# Altium schematic symbol library kmilo17pet-NSC_LDO.SchLib: 2675 symbols (part 14 of 65)
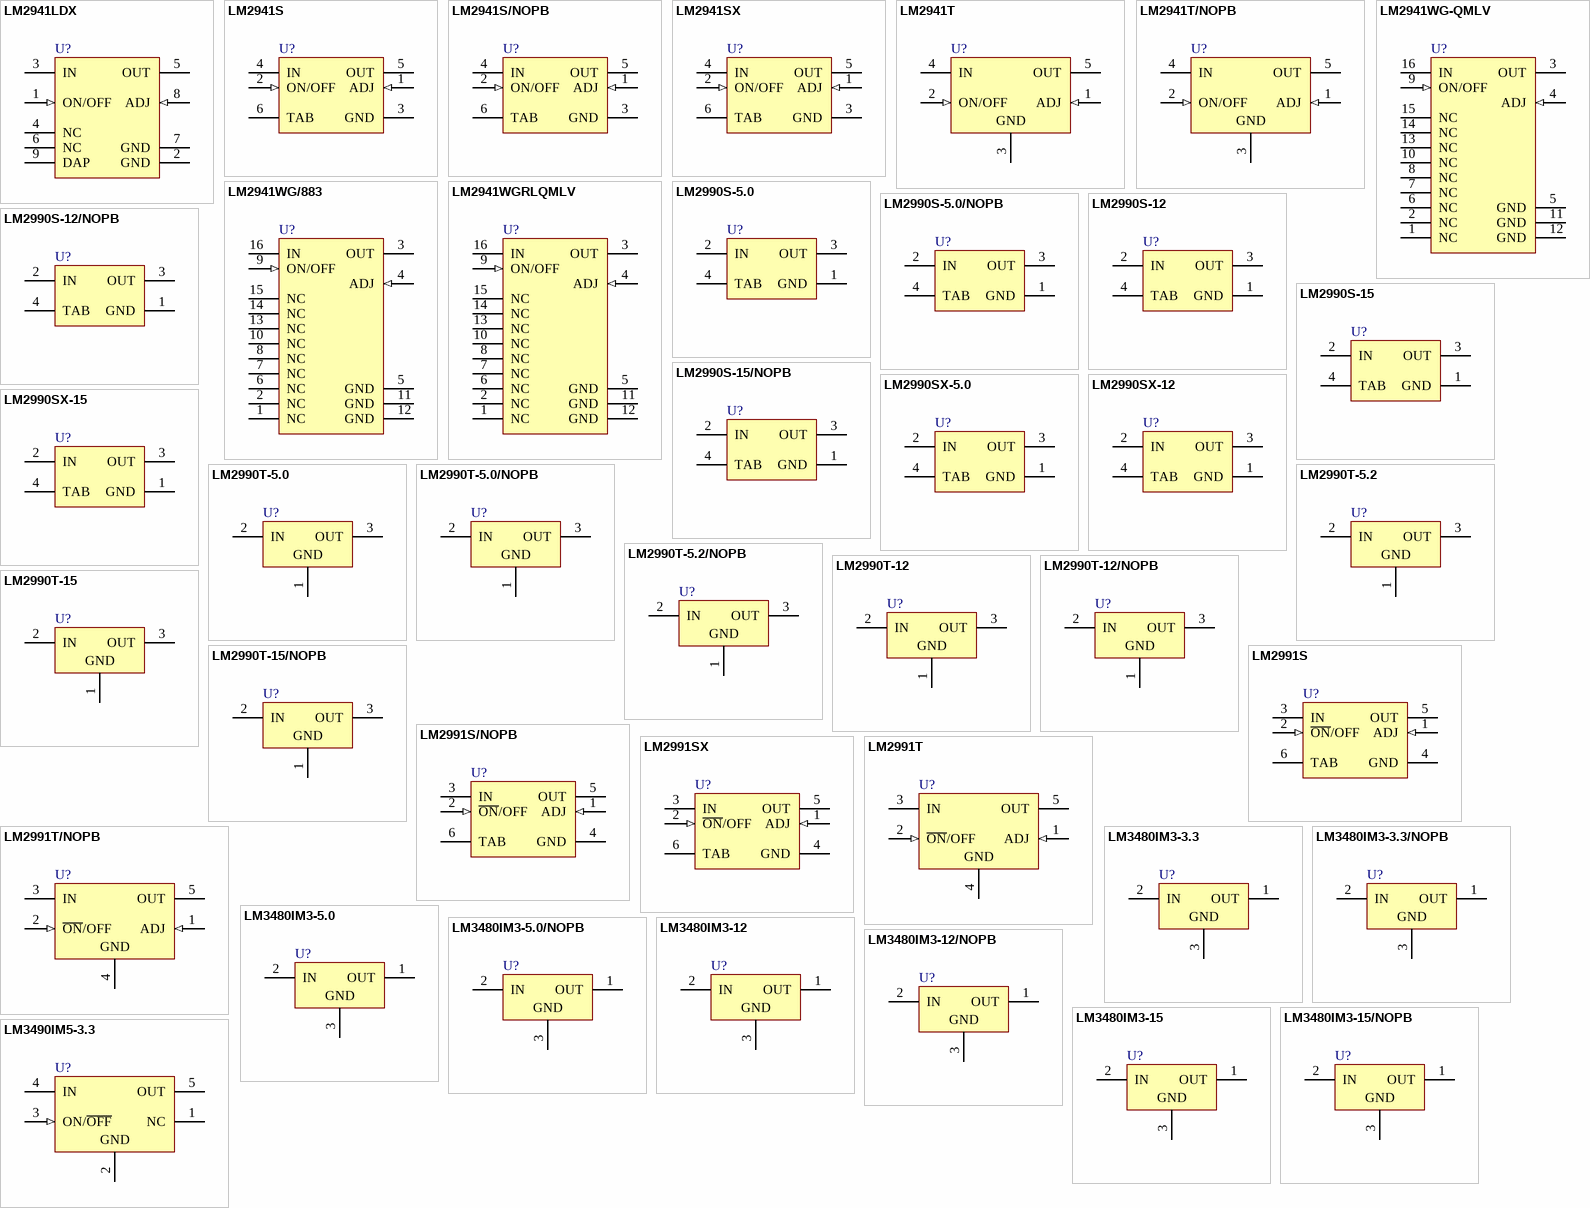
[diagram p80: symbols LM2941LDX to LM3490IM5-3.3]

## LM2990S-5.0/NOPB
designator U?
Negative Low Dropout Regulator, 3-pin TO-263, Pb-Free; PartNumber: LM2990S-5.0/NOPB; Manufacturer: National Semiconductor; PackageTopMarking: NSUZXYTTE#*LM2990S*-5.0 P+; PowerWise: N; CompType: LDO IC; High-Reliability: Y; DatasheetVersion: Jun-2005; PackageVersion: revF, Apr-2005; PackageReference: TS3B; PackageDescription: TO-263, Molded, .400 x .390 x .180in, 3 Lead, .1in Pitch, Surface Mount; RoHS: Y; PinCount: 3; Code_JEDEC: MO-169-AA; ComponentLink1Description: Manufacturer URL; ComponentLink1URL: http://www.national.com/; ComponentLink2Description: LM2990 Datasheet; ComponentLink2URL: http://www.national.com/ds/LM/LM2990.pdf; ComponentLink3Description: LM2990 Web Page; ComponentLink3URL: http://www.national.com/pf/LM/LM2990.html; ComponentLink4Description: TS3B Package Page; ComponentLink4URL: http://www.national.com/packaging/folders/ts3b.html
footprint TS3B_N (D2-PAK, 4-Leads, Body 8.6x10.2mm, Pitch 2.54mm, Lead Span 14.2mm, IPC Medium Density)
footprint TS3B_L (D2-PAK, 4-Leads, Body 8.6x10.2mm, Pitch 2.54mm, Lead Span 14.2mm, IPC High Density)
footprint TS3B_M (D2-PAK, 4-Leads, Body 8.6x10.2mm, Pitch 2.54mm, Lead Span 14.2mm, IPC Low Density)
pins: 1 GND (power), 2 IN (power), 3 OUT (power), 4 TAB (power)

## LM2990S-12
designator U?
Negative Low Dropout Regulator, 3-pin TO-263; PartNumber: LM2990S-12; Manufacturer: National Semiconductor; PackageTopMarking: NSUZXYTTE#*LM2990S*-12 P+; PowerWise: N; CompType: LDO IC; High-Reliability: Y; DatasheetVersion: Jun-2005; PackageVersion: revF, Apr-2005; PackageReference: TS3B; PackageDescription: TO-263, Molded, .400 x .390 x .180in, 3 Lead, .1in Pitch, Surface Mount; RoHS: N; PinCount: 3; Code_JEDEC: MO-169-AA; ComponentLink1Description: Manufacturer URL; ComponentLink1URL: http://www.national.com/; ComponentLink2Description: LM2990 Datasheet; ComponentLink2URL: http://www.national.com/ds/LM/LM2990.pdf; ComponentLink3Description: LM2990 Web Page; ComponentLink3URL: http://www.national.com/pf/LM/LM2990.html; ComponentLink4Description: TS3B Package Page; ComponentLink4URL: http://www.national.com/packaging/folders/ts3b.html
footprint TS3B_N (D2-PAK, 4-Leads, Body 8.6x10.2mm, Pitch 2.54mm, Lead Span 14.2mm, IPC Medium Density)
footprint TS3B_L (D2-PAK, 4-Leads, Body 8.6x10.2mm, Pitch 2.54mm, Lead Span 14.2mm, IPC High Density)
footprint TS3B_M (D2-PAK, 4-Leads, Body 8.6x10.2mm, Pitch 2.54mm, Lead Span 14.2mm, IPC Low Density)
pins: 1 GND (power), 2 IN (power), 3 OUT (power), 4 TAB (power)

## LM2990S-12/NOPB
designator U?
Negative Low Dropout Regulator, 3-pin TO-263, Pb-Free; PartNumber: LM2990S-12/NOPB; Manufacturer: National Semiconductor; PackageTopMarking: NSUZXYTTE#*LM2990S*-12 P+; PowerWise: N; CompType: LDO IC; High-Reliability: Y; DatasheetVersion: Jun-2005; PackageVersion: revF, Apr-2005; PackageReference: TS3B; PackageDescription: TO-263, Molded, .400 x .390 x .180in, 3 Lead, .1in Pitch, Surface Mount; RoHS: Y; PinCount: 3; Code_JEDEC: MO-169-AA; ComponentLink1Description: Manufacturer URL; ComponentLink1URL: http://www.national.com/; ComponentLink2Description: LM2990 Datasheet; ComponentLink2URL: http://www.national.com/ds/LM/LM2990.pdf; ComponentLink3Description: LM2990 Web Page; ComponentLink3URL: http://www.national.com/pf/LM/LM2990.html; ComponentLink4Description: TS3B Package Page; ComponentLink4URL: http://www.national.com/packaging/folders/ts3b.html
footprint TS3B_N (D2-PAK, 4-Leads, Body 8.6x10.2mm, Pitch 2.54mm, Lead Span 14.2mm, IPC Medium Density)
footprint TS3B_L (D2-PAK, 4-Leads, Body 8.6x10.2mm, Pitch 2.54mm, Lead Span 14.2mm, IPC High Density)
footprint TS3B_M (D2-PAK, 4-Leads, Body 8.6x10.2mm, Pitch 2.54mm, Lead Span 14.2mm, IPC Low Density)
pins: 1 GND (power), 2 IN (power), 3 OUT (power), 4 TAB (power)

## LM2990S-15
designator U?
Negative Low Dropout Regulator, 3-pin TO-263; PartNumber: LM2990S-15; Manufacturer: National Semiconductor; PackageTopMarking: NSUZXYTTE#*LM2990S*-15 P+; PowerWise: N; CompType: LDO IC; High-Reliability: Y; DatasheetVersion: Jun-2005; PackageVersion: revF, Apr-2005; PackageReference: TS3B; PackageDescription: TO-263, Molded, .400 x .390 x .180in, 3 Lead, .1in Pitch, Surface Mount; RoHS: N; PinCount: 3; Code_JEDEC: MO-169-AA; ComponentLink1Description: Manufacturer URL; ComponentLink1URL: http://www.national.com/; ComponentLink2Description: LM2990 Datasheet; ComponentLink2URL: http://www.national.com/ds/LM/LM2990.pdf; ComponentLink3Description: LM2990 Web Page; ComponentLink3URL: http://www.national.com/pf/LM/LM2990.html; ComponentLink4Description: TS3B Package Page; ComponentLink4URL: http://www.national.com/packaging/folders/ts3b.html
footprint TS3B_N (D2-PAK, 4-Leads, Body 8.6x10.2mm, Pitch 2.54mm, Lead Span 14.2mm, IPC Medium Density)
footprint TS3B_L (D2-PAK, 4-Leads, Body 8.6x10.2mm, Pitch 2.54mm, Lead Span 14.2mm, IPC High Density)
footprint TS3B_M (D2-PAK, 4-Leads, Body 8.6x10.2mm, Pitch 2.54mm, Lead Span 14.2mm, IPC Low Density)
pins: 1 GND (power), 2 IN (power), 3 OUT (power), 4 TAB (power)

## LM2990S-15/NOPB
designator U?
Negative Low Dropout Regulator, 3-pin TO-263, Pb-Free; PartNumber: LM2990S-15/NOPB; Manufacturer: National Semiconductor; PackageTopMarking: NSUZXYTTE#*LM2990S*-15 P+; PowerWise: N; CompType: LDO IC; High-Reliability: Y; DatasheetVersion: Jun-2005; PackageVersion: revF, Apr-2005; PackageReference: TS3B; PackageDescription: TO-263, Molded, .400 x .390 x .180in, 3 Lead, .1in Pitch, Surface Mount; RoHS: Y; PinCount: 3; Code_JEDEC: MO-169-AA; ComponentLink1Description: Manufacturer URL; ComponentLink1URL: http://www.national.com/; ComponentLink2Description: LM2990 Datasheet; ComponentLink2URL: http://www.national.com/ds/LM/LM2990.pdf; ComponentLink3Description: LM2990 Web Page; ComponentLink3URL: http://www.national.com/pf/LM/LM2990.html; ComponentLink4Description: TS3B Package Page; ComponentLink4URL: http://www.national.com/packaging/folders/ts3b.html
footprint TS3B_N (D2-PAK, 4-Leads, Body 8.6x10.2mm, Pitch 2.54mm, Lead Span 14.2mm, IPC Medium Density)
footprint TS3B_L (D2-PAK, 4-Leads, Body 8.6x10.2mm, Pitch 2.54mm, Lead Span 14.2mm, IPC High Density)
footprint TS3B_M (D2-PAK, 4-Leads, Body 8.6x10.2mm, Pitch 2.54mm, Lead Span 14.2mm, IPC Low Density)
pins: 1 GND (power), 2 IN (power), 3 OUT (power), 4 TAB (power)

## LM2990SX-5.0
designator U?
Negative Low Dropout Regulator, 3-pin TO-263; PartNumber: LM2990SX-5.0; Manufacturer: National Semiconductor; PackageTopMarking: NSUZXYTTE#*LM2990S*-5.0 P+; PowerWise: N; CompType: LDO IC; High-Reliability: Y; DatasheetVersion: Jun-2005; PackageVersion: revF, Apr-2005; PackageReference: TS3B; PackageDescription: TO-263, Molded, .400 x .390 x .180in, 3 Lead, .1in Pitch, Surface Mount; RoHS: N; PinCount: 3; Code_JEDEC: MO-169-AA; ComponentLink1Description: Manufacturer URL; ComponentLink1URL: http://www.national.com/; ComponentLink2Description: LM2990 Datasheet; ComponentLink2URL: http://www.national.com/ds/LM/LM2990.pdf; ComponentLink3Description: LM2990 Web Page; ComponentLink3URL: http://www.national.com/pf/LM/LM2990.html; ComponentLink4Description: TS3B Package Page; ComponentLink4URL: http://www.national.com/packaging/folders/ts3b.html
footprint TS3B_N (D2-PAK, 4-Leads, Body 8.6x10.2mm, Pitch 2.54mm, Lead Span 14.2mm, IPC Medium Density)
footprint TS3B_L (D2-PAK, 4-Leads, Body 8.6x10.2mm, Pitch 2.54mm, Lead Span 14.2mm, IPC High Density)
footprint TS3B_M (D2-PAK, 4-Leads, Body 8.6x10.2mm, Pitch 2.54mm, Lead Span 14.2mm, IPC Low Density)
pins: 1 GND (power), 2 IN (power), 3 OUT (power), 4 TAB (power)

## LM2990SX-12
designator U?
Negative Low Dropout Regulator, 3-pin TO-263; PartNumber: LM2990SX-12; Manufacturer: National Semiconductor; PackageTopMarking: NSUZXYTTE#*LM2990S*-12 P+; PowerWise: N; CompType: LDO IC; High-Reliability: Y; DatasheetVersion: Jun-2005; PackageVersion: revF, Apr-2005; PackageReference: TS3B; PackageDescription: TO-263, Molded, .400 x .390 x .180in, 3 Lead, .1in Pitch, Surface Mount; RoHS: N; PinCount: 3; Code_JEDEC: MO-169-AA; ComponentLink1Description: Manufacturer URL; ComponentLink1URL: http://www.national.com/; ComponentLink2Description: LM2990 Datasheet; ComponentLink2URL: http://www.national.com/ds/LM/LM2990.pdf; ComponentLink3Description: LM2990 Web Page; ComponentLink3URL: http://www.national.com/pf/LM/LM2990.html; ComponentLink4Description: TS3B Package Page; ComponentLink4URL: http://www.national.com/packaging/folders/ts3b.html
footprint TS3B_N (D2-PAK, 4-Leads, Body 8.6x10.2mm, Pitch 2.54mm, Lead Span 14.2mm, IPC Medium Density)
footprint TS3B_L (D2-PAK, 4-Leads, Body 8.6x10.2mm, Pitch 2.54mm, Lead Span 14.2mm, IPC High Density)
footprint TS3B_M (D2-PAK, 4-Leads, Body 8.6x10.2mm, Pitch 2.54mm, Lead Span 14.2mm, IPC Low Density)
pins: 1 GND (power), 2 IN (power), 3 OUT (power), 4 TAB (power)

## LM2990SX-15
designator U?
Negative Low Dropout Regulator, 3-pin TO-263; PartNumber: LM2990SX-15; Manufacturer: National Semiconductor; PackageTopMarking: NSUZXYTTE#*LM2990S*-15 P+; PowerWise: N; CompType: LDO IC; High-Reliability: Y; DatasheetVersion: Jun-2005; PackageVersion: revF, Apr-2005; PackageReference: TS3B; PackageDescription: TO-263, Molded, .400 x .390 x .180in, 3 Lead, .1in Pitch, Surface Mount; RoHS: N; PinCount: 3; Code_JEDEC: MO-169-AA; ComponentLink1Description: Manufacturer URL; ComponentLink1URL: http://www.national.com/; ComponentLink2Description: LM2990 Datasheet; ComponentLink2URL: http://www.national.com/ds/LM/LM2990.pdf; ComponentLink3Description: LM2990 Web Page; ComponentLink3URL: http://www.national.com/pf/LM/LM2990.html; ComponentLink4Description: TS3B Package Page; ComponentLink4URL: http://www.national.com/packaging/folders/ts3b.html
footprint TS3B_N (D2-PAK, 4-Leads, Body 8.6x10.2mm, Pitch 2.54mm, Lead Span 14.2mm, IPC Medium Density)
footprint TS3B_L (D2-PAK, 4-Leads, Body 8.6x10.2mm, Pitch 2.54mm, Lead Span 14.2mm, IPC High Density)
footprint TS3B_M (D2-PAK, 4-Leads, Body 8.6x10.2mm, Pitch 2.54mm, Lead Span 14.2mm, IPC Low Density)
pins: 1 GND (power), 2 IN (power), 3 OUT (power), 4 TAB (power)

## LM2990T-5.0
designator U?
Negative Low Dropout Regulator, 3-pin TO-220; PartNumber: LM2990T-5.0; Manufacturer: National Semiconductor; PackageTopMarking: NSUZXYTTE#*LM2990T*-5.0 P+; PowerWise: N; CompType: LDO IC; High-Reliability: Y; DatasheetVersion: Jun-2005; PackageVersion: revL, Jan-1992; PackageReference: T03B; PackageDescription: TO-220, Molded, 3 Lead, Straight; RoHS: N; PinCount: 3; ComponentLink1Description: Manufacturer URL; ComponentLink1URL: http://www.national.com/; ComponentLink2Description: LM2990 Datasheet; ComponentLink2URL: http://www.national.com/ds/LM/LM2990.pdf; ComponentLink3Description: LM2990 Web Page; ComponentLink3URL: http://www.national.com/pf/LM/LM2990.html; ComponentLink4Description: T03B Package Page; ComponentLink4URL: http://www.national.com/packaging/folders/t03b.html
footprint T03B (TO, Thru-Hole, Vertical, Heatsink Mounted; 3 In-Line Leads; Pitch 2.54 mm)
pins: 1 GND (power), 2 IN (power), 3 OUT (power)

## LM2990T-5.0/NOPB
designator U?
Negative Low Dropout Regulator, 3-pin TO-220, Pb-Free; PartNumber: LM2990T-5.0/NOPB; Manufacturer: National Semiconductor; PackageTopMarking: NSUZXYTTE#*LM2990T*-5.0 P+; PowerWise: N; CompType: LDO IC; High-Reliability: Y; DatasheetVersion: Jun-2005; PackageVersion: revL, Jan-1992; PackageReference: T03B; PackageDescription: TO-220, Molded, 3 Lead, Straight; RoHS: Y; PinCount: 3; ComponentLink1Description: Manufacturer URL; ComponentLink1URL: http://www.national.com/; ComponentLink2Description: LM2990 Datasheet; ComponentLink2URL: http://www.national.com/ds/LM/LM2990.pdf; ComponentLink3Description: LM2990 Web Page; ComponentLink3URL: http://www.national.com/pf/LM/LM2990.html; ComponentLink4Description: T03B Package Page; ComponentLink4URL: http://www.national.com/packaging/folders/t03b.html
footprint T03B (TO, Thru-Hole, Vertical, Heatsink Mounted; 3 In-Line Leads; Pitch 2.54 mm)
pins: 1 GND (power), 2 IN (power), 3 OUT (power)

## LM2990T-5.2
designator U?
Negative Low Dropout Regulator, 3-pin TO-220; PartNumber: LM2990T-5.2; Manufacturer: National Semiconductor; PackageTopMarking: NSUZXYTTE#*LM2990T*-5.2 P+; PowerWise: N; CompType: LDO IC; High-Reliability: Y; DatasheetVersion: Jun-2005; PackageVersion: revL, Jan-1992; PackageReference: T03B; PackageDescription: TO-220, Molded, 3 Lead, Straight; RoHS: N; PinCount: 3; ComponentLink1Description: Manufacturer URL; ComponentLink1URL: http://www.national.com/; ComponentLink2Description: LM2990 Datasheet; ComponentLink2URL: http://www.national.com/ds/LM/LM2990.pdf; ComponentLink3Description: LM2990 Web Page; ComponentLink3URL: http://www.national.com/pf/LM/LM2990.html; ComponentLink4Description: T03B Package Page; ComponentLink4URL: http://www.national.com/packaging/folders/t03b.html
footprint T03B (TO, Thru-Hole, Vertical, Heatsink Mounted; 3 In-Line Leads; Pitch 2.54 mm)
pins: 1 GND (power), 2 IN (power), 3 OUT (power)

## LM2990T-5.2/NOPB
designator U?
Negative Low Dropout Regulator, 3-pin TO-220, Pb-Free; PartNumber: LM2990T-5.2/NOPB; Manufacturer: National Semiconductor; PackageTopMarking: NSUZXYTTE#*LM2990T*-5.2 P+; PowerWise: N; CompType: LDO IC; High-Reliability: Y; DatasheetVersion: Jun-2005; PackageVersion: revL, Jan-1992; PackageReference: T03B; PackageDescription: TO-220, Molded, 3 Lead, Straight; RoHS: Y; PinCount: 3; ComponentLink1Description: Manufacturer URL; ComponentLink1URL: http://www.national.com/; ComponentLink2Description: LM2990 Datasheet; ComponentLink2URL: http://www.national.com/ds/LM/LM2990.pdf; ComponentLink3Description: LM2990 Web Page; ComponentLink3URL: http://www.national.com/pf/LM/LM2990.html; ComponentLink4Description: T03B Package Page; ComponentLink4URL: http://www.national.com/packaging/folders/t03b.html
footprint T03B (TO, Thru-Hole, Vertical, Heatsink Mounted; 3 In-Line Leads; Pitch 2.54 mm)
pins: 1 GND (power), 2 IN (power), 3 OUT (power)

## LM2990T-12
designator U?
Negative Low Dropout Regulator, 3-pin TO-220; PartNumber: LM2990T-12; Manufacturer: National Semiconductor; PackageTopMarking: NSUZXYTTE#*LM2990T*-12 P+; PowerWise: N; CompType: LDO IC; High-Reliability: Y; DatasheetVersion: Jun-2005; PackageVersion: revL, Jan-1992; PackageReference: T03B; PackageDescription: TO-220, Molded, 3 Lead, Straight; RoHS: N; PinCount: 3; ComponentLink1Description: Manufacturer URL; ComponentLink1URL: http://www.national.com/; ComponentLink2Description: LM2990 Datasheet; ComponentLink2URL: http://www.national.com/ds/LM/LM2990.pdf; ComponentLink3Description: LM2990 Web Page; ComponentLink3URL: http://www.national.com/pf/LM/LM2990.html; ComponentLink4Description: T03B Package Page; ComponentLink4URL: http://www.national.com/packaging/folders/t03b.html
footprint T03B (TO, Thru-Hole, Vertical, Heatsink Mounted; 3 In-Line Leads; Pitch 2.54 mm)
pins: 1 GND (power), 2 IN (power), 3 OUT (power)

## LM2990T-12/NOPB
designator U?
Negative Low Dropout Regulator, 3-pin TO-220, Pb-Free; PartNumber: LM2990T-12/NOPB; Manufacturer: National Semiconductor; PackageTopMarking: NSUZXYTTE#*LM2990T*-12 P+; PowerWise: N; CompType: LDO IC; High-Reliability: Y; DatasheetVersion: Jun-2005; PackageVersion: revL, Jan-1992; PackageReference: T03B; PackageDescription: TO-220, Molded, 3 Lead, Straight; RoHS: Y; PinCount: 3; ComponentLink1Description: Manufacturer URL; ComponentLink1URL: http://www.national.com/; ComponentLink2Description: LM2990 Datasheet; ComponentLink2URL: http://www.national.com/ds/LM/LM2990.pdf; ComponentLink3Description: LM2990 Web Page; ComponentLink3URL: http://www.national.com/pf/LM/LM2990.html; ComponentLink4Description: T03B Package Page; ComponentLink4URL: http://www.national.com/packaging/folders/t03b.html
footprint T03B (TO, Thru-Hole, Vertical, Heatsink Mounted; 3 In-Line Leads; Pitch 2.54 mm)
pins: 1 GND (power), 2 IN (power), 3 OUT (power)

## LM2990T-15
designator U?
Negative Low Dropout Regulator, 3-pin TO-220; PartNumber: LM2990T-15; Manufacturer: National Semiconductor; PackageTopMarking: NSUZXYTTE#*LM2990T*-15 P+; PowerWise: N; CompType: LDO IC; High-Reliability: Y; DatasheetVersion: Jun-2005; PackageVersion: revL, Jan-1992; PackageReference: T03B; PackageDescription: TO-220, Molded, 3 Lead, Straight; RoHS: N; PinCount: 3; ComponentLink1Description: Manufacturer URL; ComponentLink1URL: http://www.national.com/; ComponentLink2Description: LM2990 Datasheet; ComponentLink2URL: http://www.national.com/ds/LM/LM2990.pdf; ComponentLink3Description: LM2990 Web Page; ComponentLink3URL: http://www.national.com/pf/LM/LM2990.html; ComponentLink4Description: T03B Package Page; ComponentLink4URL: http://www.national.com/packaging/folders/t03b.html
footprint T03B (TO, Thru-Hole, Vertical, Heatsink Mounted; 3 In-Line Leads; Pitch 2.54 mm)
pins: 1 GND (power), 2 IN (power), 3 OUT (power)

## LM2990T-15/NOPB
designator U?
Negative Low Dropout Regulator, 3-pin TO-220, Pb-Free; PartNumber: LM2990T-15/NOPB; Manufacturer: National Semiconductor; PackageTopMarking: NSUZXYTTE#*LM2990T*-15 P+; PowerWise: N; CompType: LDO IC; High-Reliability: Y; DatasheetVersion: Jun-2005; PackageVersion: revL, Jan-1992; PackageReference: T03B; PackageDescription: TO-220, Molded, 3 Lead, Straight; RoHS: Y; PinCount: 3; ComponentLink1Description: Manufacturer URL; ComponentLink1URL: http://www.national.com/; ComponentLink2Description: LM2990 Datasheet; ComponentLink2URL: http://www.national.com/ds/LM/LM2990.pdf; ComponentLink3Description: LM2990 Web Page; ComponentLink3URL: http://www.national.com/pf/LM/LM2990.html; ComponentLink4Description: T03B Package Page; ComponentLink4URL: http://www.national.com/packaging/folders/t03b.html
footprint T03B (TO, Thru-Hole, Vertical, Heatsink Mounted; 3 In-Line Leads; Pitch 2.54 mm)
pins: 1 GND (power), 2 IN (power), 3 OUT (power)

## LM2991S
designator U?
Negative Low Dropout Adjustable Regulator, 5-pin TO-263; PartNumber: LM2991S; Manufacturer: National Semiconductor; PackageTopMarking: NSUZXYTTE#*LM2991S*P+; PowerWise: N; CompType: LDO IC; High-Reliability: Y; DatasheetVersion: Sep-2000; PackageVersion: revD, Apr-2005; PackageReference: TS5B; PackageDescription: TO-263, Molded, .400 x .390 x .180in, 5 Lead, .067in Pitch, Surface Mount; RoHS: N; PinCount: 5; Code_JEDEC: MO-169-AB; ComponentLink1Description: Manufacturer URL; ComponentLink1URL: http://www.national.com/; ComponentLink2Description: LM2991 Datasheet; ComponentLink2URL: http://www.national.com/ds/LM/LM2991.pdf; ComponentLink3Description: LM2991 Web Page; ComponentLink3URL: http://www.national.com/pf/LM/LM2991.html; ComponentLink4Description: TS5B Package Page; ComponentLink4URL: http://www.national.com/packaging/folders/ts5b.html
footprint TS5B_N (D2-PAK, 6-Leads, Body 8.6x10.2mm, Pitch 1.7mm, Lead Span 14.1mm, IPC Medium Density)
footprint TS5B_L (D2-PAK, 6-Leads, Body 8.6x10.2mm, Pitch 1.7mm, Lead Span 14.1mm, IPC High Density)
footprint TS5B_M (D2-PAK, 6-Leads, Body 8.6x10.2mm, Pitch 1.7mm, Lead Span 14.1mm, IPC Low Density)
pins: 1 ADJ (in), 2 ~{ON}/OFF (in), 3 IN (power), 4 GND (power), 5 OUT (power), 6 TAB (power)

## LM2991S/NOPB
designator U?
Negative Low Dropout Adjustable Regulator, 5-pin TO-263, Pb-Free; PartNumber: LM2991S/NOPB; Manufacturer: National Semiconductor; PackageTopMarking: NSUZXYTTE#*LM2991S*P+; PowerWise: N; CompType: LDO IC; High-Reliability: Y; DatasheetVersion: Sep-2000; PackageVersion: revD, Apr-2005; PackageReference: TS5B; PackageDescription: TO-263, Molded, .400 x .390 x .180in, 5 Lead, .067in Pitch, Surface Mount; RoHS: Y; PinCount: 5; Code_JEDEC: MO-169-AB; ComponentLink1Description: Manufacturer URL; ComponentLink1URL: http://www.national.com/; ComponentLink2Description: LM2991 Datasheet; ComponentLink2URL: http://www.national.com/ds/LM/LM2991.pdf; ComponentLink3Description: LM2991 Web Page; ComponentLink3URL: http://www.national.com/pf/LM/LM2991.html; ComponentLink4Description: TS5B Package Page; ComponentLink4URL: http://www.national.com/packaging/folders/ts5b.html
footprint TS5B_N (D2-PAK, 6-Leads, Body 8.6x10.2mm, Pitch 1.7mm, Lead Span 14.1mm, IPC Medium Density)
footprint TS5B_L (D2-PAK, 6-Leads, Body 8.6x10.2mm, Pitch 1.7mm, Lead Span 14.1mm, IPC High Density)
footprint TS5B_M (D2-PAK, 6-Leads, Body 8.6x10.2mm, Pitch 1.7mm, Lead Span 14.1mm, IPC Low Density)
pins: 1 ADJ (in), 2 ~{ON}/OFF (in), 3 IN (power), 4 GND (power), 5 OUT (power), 6 TAB (power)

## LM2991SX
designator U?
Negative Low Dropout Adjustable Regulator, 5-pin TO-263; PartNumber: LM2991SX; Manufacturer: National Semiconductor; PackageTopMarking: NSUZXYTTE#*LM2991S*P+; PowerWise: N; CompType: LDO IC; High-Reliability: Y; DatasheetVersion: Sep-2000; PackageVersion: revD, Apr-2005; PackageReference: TS5B; PackageDescription: TO-263, Molded, .400 x .390 x .180in, 5 Lead, .067in Pitch, Surface Mount; RoHS: N; PinCount: 5; Code_JEDEC: MO-169-AB; ComponentLink1Description: Manufacturer URL; ComponentLink1URL: http://www.national.com/; ComponentLink2Description: LM2991 Datasheet; ComponentLink2URL: http://www.national.com/ds/LM/LM2991.pdf; ComponentLink3Description: LM2991 Web Page; ComponentLink3URL: http://www.national.com/pf/LM/LM2991.html; ComponentLink4Description: TS5B Package Page; ComponentLink4URL: http://www.national.com/packaging/folders/ts5b.html
footprint TS5B_N (D2-PAK, 6-Leads, Body 8.6x10.2mm, Pitch 1.7mm, Lead Span 14.1mm, IPC Medium Density)
footprint TS5B_L (D2-PAK, 6-Leads, Body 8.6x10.2mm, Pitch 1.7mm, Lead Span 14.1mm, IPC High Density)
footprint TS5B_M (D2-PAK, 6-Leads, Body 8.6x10.2mm, Pitch 1.7mm, Lead Span 14.1mm, IPC Low Density)
pins: 1 ADJ (in), 2 ~{ON}/OFF (in), 3 IN (power), 4 GND (power), 5 OUT (power), 6 TAB (power)

## LM2991T
designator U?
Negative Low Dropout Adjustable Regulator, 5-pin TO-220; PartNumber: LM2991T; Manufacturer: National Semiconductor; PackageTopMarking: NSUZXYTTE#*LM2991T*P+; PowerWise: N; CompType: LDO IC; High-Reliability: Y; DatasheetVersion: Sep-2000; PackageVersion: revJ, Jan-1992; PackageReference: T05A; PackageDescription: TO-220, Molded, 5 Lead, Straight; RoHS: N; PinCount: 5; Code_JEDEC: TO-220-AB; ComponentLink1Description: Manufacturer URL; ComponentLink1URL: http://www.national.com/; ComponentLink2Description: LM2991 Datasheet; ComponentLink2URL: http://www.national.com/ds/LM/LM2991.pdf; ComponentLink3Description: LM2991 Web Page; ComponentLink3URL: http://www.national.com/pf/LM/LM2991.html; ComponentLink4Description: T05A Package Page; ComponentLink4URL: http://www.national.com/packaging/folders/t05a.html
footprint T05A (TO, Thru-Hole, Vertical, Heatsink Mounted; 5 In-Line Leads; Pitch 1.70 mm)
pins: 1 ADJ (in), 2 ~{ON}/OFF (in), 3 IN (power), 4 GND (power), 5 OUT (power)

## LM2991T/NOPB
designator U?
Negative Low Dropout Adjustable Regulator, 5-pin TO-220, Pb-Free; PartNumber: LM2991T/NOPB; Manufacturer: National Semiconductor; PackageTopMarking: NSUZXYTTE#*LM2991T*P+; PowerWise: N; CompType: LDO IC; High-Reliability: Y; DatasheetVersion: Sep-2000; PackageVersion: revJ, Jan-1992; PackageReference: T05A; PackageDescription: TO-220, Molded, 5 Lead, Straight; RoHS: Y; PinCount: 5; Code_JEDEC: TO-220-AB; ComponentLink1Description: Manufacturer URL; ComponentLink1URL: http://www.national.com/; ComponentLink2Description: LM2991 Datasheet; ComponentLink2URL: http://www.national.com/ds/LM/LM2991.pdf; ComponentLink3Description: LM2991 Web Page; ComponentLink3URL: http://www.national.com/pf/LM/LM2991.html; ComponentLink4Description: T05A Package Page; ComponentLink4URL: http://www.national.com/packaging/folders/t05a.html
footprint T05A (TO, Thru-Hole, Vertical, Heatsink Mounted; 5 In-Line Leads; Pitch 1.70 mm)
pins: 1 ADJ (in), 2 ~{ON}/OFF (in), 3 IN (power), 4 GND (power), 5 OUT (power)

## LM3480IM3-3.3
designator U?
100 mA, Quasi Low-Dropout Linear Voltage Regulator, 3-pin SOT-23; PartNumber: LM3480IM3-3.3; Manufacturer: National Semiconductor; PackageTopMarking: L0A*XTT; PowerWise: N; CompType: LDO IC; High-Reliability: Y; DatasheetVersion: Mar-2005; PackageVersion: revB, Mar-2003; PackageReference: MF03A; PackageDescription: Molded SOT-23, .115 x .051 x .037in Body, 3 Lead, .075 in Pitch; RoHS: N; PinCount: 3; ComponentLink1Description: Manufacturer URL; ComponentLink1URL: http://www.national.com/; ComponentLink2Description: LM3480 Datasheet; ComponentLink2URL: http://www.national.com/ds/LM/LM3480.pdf; ComponentLink3Description: LM3480 Web Page; ComponentLink3URL: http://www.national.com/pf/LM/LM3480.html; ComponentLink4Description: MF03A Package Page; ComponentLink4URL: http://www.national.com/packaging/folders/mf03a.html
footprint MF03A_N (SOT23, 3-Leads, Body 2.9x1.3mm, Pitch 0.95mm, Lead Span 2.4mm, IPC Medium Density)
footprint MF03A_L (SOT23, 3-Leads, Body 2.9x1.3mm, Pitch 0.95mm, Lead Span 2.4mm, IPC High Density)
footprint MF03A_M (SOT23, 3-Leads, Body 2.9x1.3mm, Pitch 0.95mm, Lead Span 2.4mm, IPC Low Density)
pins: 1 OUT (power), 2 IN (power), 3 GND (power)

## LM3480IM3-3.3/NOPB
designator U?
100 mA, Quasi Low-Dropout Linear Voltage Regulator, 3-pin SOT-23, Pb-Free; PartNumber: LM3480IM3-3.3/NOPB; Manufacturer: National Semiconductor; PackageTopMarking: L0A*XTT; PowerWise: N; CompType: LDO IC; High-Reliability: Y; DatasheetVersion: Mar-2005; PackageVersion: revB, Mar-2003; PackageReference: MF03A; PackageDescription: Molded SOT-23, .115 x .051 x .037in Body, 3 Lead, .075 in Pitch; RoHS: Y; PinCount: 3; ComponentLink1Description: Manufacturer URL; ComponentLink1URL: http://www.national.com/; ComponentLink2Description: LM3480 Datasheet; ComponentLink2URL: http://www.national.com/ds/LM/LM3480.pdf; ComponentLink3Description: LM3480 Web Page; ComponentLink3URL: http://www.national.com/pf/LM/LM3480.html; ComponentLink4Description: MF03A Package Page; ComponentLink4URL: http://www.national.com/packaging/folders/mf03a.html
footprint MF03A_N (SOT23, 3-Leads, Body 2.9x1.3mm, Pitch 0.95mm, Lead Span 2.4mm, IPC Medium Density)
footprint MF03A_L (SOT23, 3-Leads, Body 2.9x1.3mm, Pitch 0.95mm, Lead Span 2.4mm, IPC High Density)
footprint MF03A_M (SOT23, 3-Leads, Body 2.9x1.3mm, Pitch 0.95mm, Lead Span 2.4mm, IPC Low Density)
pins: 1 OUT (power), 2 IN (power), 3 GND (power)

## LM3480IM3-5.0
designator U?
100 mA, Quasi Low-Dropout Linear Voltage Regulator, 3-pin SOT-23; PartNumber: LM3480IM3-5.0; Manufacturer: National Semiconductor; PackageTopMarking: L0B*XTT; PowerWise: N; CompType: LDO IC; High-Reliability: Y; DatasheetVersion: Mar-2005; PackageVersion: revB, Mar-2003; PackageReference: MF03A; PackageDescription: Molded SOT-23, .115 x .051 x .037in Body, 3 Lead, .075 in Pitch; RoHS: N; PinCount: 3; ComponentLink1Description: Manufacturer URL; ComponentLink1URL: http://www.national.com/; ComponentLink2Description: LM3480 Datasheet; ComponentLink2URL: http://www.national.com/ds/LM/LM3480.pdf; ComponentLink3Description: LM3480 Web Page; ComponentLink3URL: http://www.national.com/pf/LM/LM3480.html; ComponentLink4Description: MF03A Package Page; ComponentLink4URL: http://www.national.com/packaging/folders/mf03a.html
footprint MF03A_N (SOT23, 3-Leads, Body 2.9x1.3mm, Pitch 0.95mm, Lead Span 2.4mm, IPC Medium Density)
footprint MF03A_L (SOT23, 3-Leads, Body 2.9x1.3mm, Pitch 0.95mm, Lead Span 2.4mm, IPC High Density)
footprint MF03A_M (SOT23, 3-Leads, Body 2.9x1.3mm, Pitch 0.95mm, Lead Span 2.4mm, IPC Low Density)
pins: 1 OUT (power), 2 IN (power), 3 GND (power)

## LM3480IM3-5.0/NOPB
designator U?
100 mA, Quasi Low-Dropout Linear Voltage Regulator, 3-pin SOT-23, Pb-Free; PartNumber: LM3480IM3-5.0/NOPB; Manufacturer: National Semiconductor; PackageTopMarking: L0B*XTT; PowerWise: N; CompType: LDO IC; High-Reliability: Y; DatasheetVersion: Mar-2005; PackageVersion: revB, Mar-2003; PackageReference: MF03A; PackageDescription: Molded SOT-23, .115 x .051 x .037in Body, 3 Lead, .075 in Pitch; RoHS: Y; PinCount: 3; ComponentLink1Description: Manufacturer URL; ComponentLink1URL: http://www.national.com/; ComponentLink2Description: LM3480 Datasheet; ComponentLink2URL: http://www.national.com/ds/LM/LM3480.pdf; ComponentLink3Description: LM3480 Web Page; ComponentLink3URL: http://www.national.com/pf/LM/LM3480.html; ComponentLink4Description: MF03A Package Page; ComponentLink4URL: http://www.national.com/packaging/folders/mf03a.html
footprint MF03A_N (SOT23, 3-Leads, Body 2.9x1.3mm, Pitch 0.95mm, Lead Span 2.4mm, IPC Medium Density)
footprint MF03A_L (SOT23, 3-Leads, Body 2.9x1.3mm, Pitch 0.95mm, Lead Span 2.4mm, IPC High Density)
footprint MF03A_M (SOT23, 3-Leads, Body 2.9x1.3mm, Pitch 0.95mm, Lead Span 2.4mm, IPC Low Density)
pins: 1 OUT (power), 2 IN (power), 3 GND (power)

## LM3480IM3-12
designator U?
100 mA, Quasi Low-Dropout Linear Voltage Regulator, 3-pin SOT-23; PartNumber: LM3480IM3-12; Manufacturer: National Semiconductor; PackageTopMarking: L0C*XTT; PowerWise: N; CompType: LDO IC; High-Reliability: Y; DatasheetVersion: Mar-2005; PackageVersion: revB, Mar-2003; PackageReference: MF03A; PackageDescription: Molded SOT-23, .115 x .051 x .037in Body, 3 Lead, .075 in Pitch; RoHS: N; PinCount: 3; ComponentLink1Description: Manufacturer URL; ComponentLink1URL: http://www.national.com/; ComponentLink2Description: LM3480 Datasheet; ComponentLink2URL: http://www.national.com/ds/LM/LM3480.pdf; ComponentLink3Description: LM3480 Web Page; ComponentLink3URL: http://www.national.com/pf/LM/LM3480.html; ComponentLink4Description: MF03A Package Page; ComponentLink4URL: http://www.national.com/packaging/folders/mf03a.html
footprint MF03A_N (SOT23, 3-Leads, Body 2.9x1.3mm, Pitch 0.95mm, Lead Span 2.4mm, IPC Medium Density)
footprint MF03A_L (SOT23, 3-Leads, Body 2.9x1.3mm, Pitch 0.95mm, Lead Span 2.4mm, IPC High Density)
footprint MF03A_M (SOT23, 3-Leads, Body 2.9x1.3mm, Pitch 0.95mm, Lead Span 2.4mm, IPC Low Density)
pins: 1 OUT (power), 2 IN (power), 3 GND (power)

## LM3480IM3-12/NOPB
designator U?
100 mA, Quasi Low-Dropout Linear Voltage Regulator, 3-pin SOT-23, Pb-Free; PartNumber: LM3480IM3-12/NOPB; Manufacturer: National Semiconductor; PackageTopMarking: L0C*XTT; PowerWise: N; CompType: LDO IC; High-Reliability: Y; DatasheetVersion: Mar-2005; PackageVersion: revB, Mar-2003; PackageReference: MF03A; PackageDescription: Molded SOT-23, .115 x .051 x .037in Body, 3 Lead, .075 in Pitch; RoHS: Y; PinCount: 3; ComponentLink1Description: Manufacturer URL; ComponentLink1URL: http://www.national.com/; ComponentLink2Description: LM3480 Datasheet; ComponentLink2URL: http://www.national.com/ds/LM/LM3480.pdf; ComponentLink3Description: LM3480 Web Page; ComponentLink3URL: http://www.national.com/pf/LM/LM3480.html; ComponentLink4Description: MF03A Package Page; ComponentLink4URL: http://www.national.com/packaging/folders/mf03a.html
footprint MF03A_N (SOT23, 3-Leads, Body 2.9x1.3mm, Pitch 0.95mm, Lead Span 2.4mm, IPC Medium Density)
footprint MF03A_L (SOT23, 3-Leads, Body 2.9x1.3mm, Pitch 0.95mm, Lead Span 2.4mm, IPC High Density)
footprint MF03A_M (SOT23, 3-Leads, Body 2.9x1.3mm, Pitch 0.95mm, Lead Span 2.4mm, IPC Low Density)
pins: 1 OUT (power), 2 IN (power), 3 GND (power)

## LM3480IM3-15
designator U?
100 mA, Quasi Low-Dropout Linear Voltage Regulator, 3-pin SOT-23; PartNumber: LM3480IM3-15; Manufacturer: National Semiconductor; PackageTopMarking: L0D*XTT; PowerWise: N; CompType: LDO IC; High-Reliability: Y; DatasheetVersion: Mar-2005; PackageVersion: revB, Mar-2003; PackageReference: MF03A; PackageDescription: Molded SOT-23, .115 x .051 x .037in Body, 3 Lead, .075 in Pitch; RoHS: N; PinCount: 3; ComponentLink1Description: Manufacturer URL; ComponentLink1URL: http://www.national.com/; ComponentLink2Description: LM3480 Datasheet; ComponentLink2URL: http://www.national.com/ds/LM/LM3480.pdf; ComponentLink3Description: LM3480 Web Page; ComponentLink3URL: http://www.national.com/pf/LM/LM3480.html; ComponentLink4Description: MF03A Package Page; ComponentLink4URL: http://www.national.com/packaging/folders/mf03a.html
footprint MF03A_N (SOT23, 3-Leads, Body 2.9x1.3mm, Pitch 0.95mm, Lead Span 2.4mm, IPC Medium Density)
footprint MF03A_L (SOT23, 3-Leads, Body 2.9x1.3mm, Pitch 0.95mm, Lead Span 2.4mm, IPC High Density)
footprint MF03A_M (SOT23, 3-Leads, Body 2.9x1.3mm, Pitch 0.95mm, Lead Span 2.4mm, IPC Low Density)
pins: 1 OUT (power), 2 IN (power), 3 GND (power)

## LM3480IM3-15/NOPB
designator U?
100 mA, Quasi Low-Dropout Linear Voltage Regulator, 3-pin SOT-23, Pb-Free; PartNumber: LM3480IM3-15/NOPB; Manufacturer: National Semiconductor; PackageTopMarking: L0D*XTT; PowerWise: N; CompType: LDO IC; High-Reliability: Y; DatasheetVersion: Mar-2005; PackageVersion: revB, Mar-2003; PackageReference: MF03A; PackageDescription: Molded SOT-23, .115 x .051 x .037in Body, 3 Lead, .075 in Pitch; RoHS: Y; PinCount: 3; ComponentLink1Description: Manufacturer URL; ComponentLink1URL: http://www.national.com/; ComponentLink2Description: LM3480 Datasheet; ComponentLink2URL: http://www.national.com/ds/LM/LM3480.pdf; ComponentLink3Description: LM3480 Web Page; ComponentLink3URL: http://www.national.com/pf/LM/LM3480.html; ComponentLink4Description: MF03A Package Page; ComponentLink4URL: http://www.national.com/packaging/folders/mf03a.html
footprint MF03A_N (SOT23, 3-Leads, Body 2.9x1.3mm, Pitch 0.95mm, Lead Span 2.4mm, IPC Medium Density)
footprint MF03A_L (SOT23, 3-Leads, Body 2.9x1.3mm, Pitch 0.95mm, Lead Span 2.4mm, IPC High Density)
footprint MF03A_M (SOT23, 3-Leads, Body 2.9x1.3mm, Pitch 0.95mm, Lead Span 2.4mm, IPC Low Density)
pins: 1 OUT (power), 2 IN (power), 3 GND (power)

## LM3490IM5-3.3
designator U?
100 mA, Quasi Low-Dropout Linear Voltage Regulator with Logic-Controlled ON/OFF, 5-pin SOT-23; PartNumber: LM3490IM5-3.3; Manufacturer: National Semiconductor; PackageTopMarking: L78B*XTT; PowerWise: N; CompType: LDO IC; High-Reliability: Y; DatasheetVersion: Jun-2007; PackageVersion: revD, Aug-2008; PackageReference: MF05A; PackageDescription: Molded SOT-23, .115 x .063 x .040 in Body, 5 Lead, .0375 in Pitch; RoHS: N; PinCount: 5; ComponentLink1Description: Manufacturer URL; ComponentLink1URL: http://www.national.com/; ComponentLink2Description: LM3490 Datasheet; ComponentLink2URL: http://www.national.com/ds/LM/LM3490.pdf; ComponentLink3Description: LM3490 Web Page; ComponentLink3URL: http://www.national.com/pf/LM/LM3490.html; ComponentLink4Description: MF05A Package Page; ComponentLink4URL: http://www.national.com/packaging/folders/mf05a.html
footprint MF05A_N (SOT23, 5-Leads, Body 2.9x1.6mm, Pitch 0.95mm, Lead Span 2.8mm, IPC Medium Density)
footprint MF05A_L (SOT23, 5-Leads, Body 2.9x1.6mm, Pitch 0.95mm, Lead Span 2.8mm, IPC High Density)
footprint MF05A_M (SOT23, 5-Leads, Body 2.9x1.6mm, Pitch 0.95mm, Lead Span 2.8mm, IPC Low Density)
pins: 1 NC, 2 GND (power), 3 ON/~{OFF} (in), 4 IN (power), 5 OUT (power)

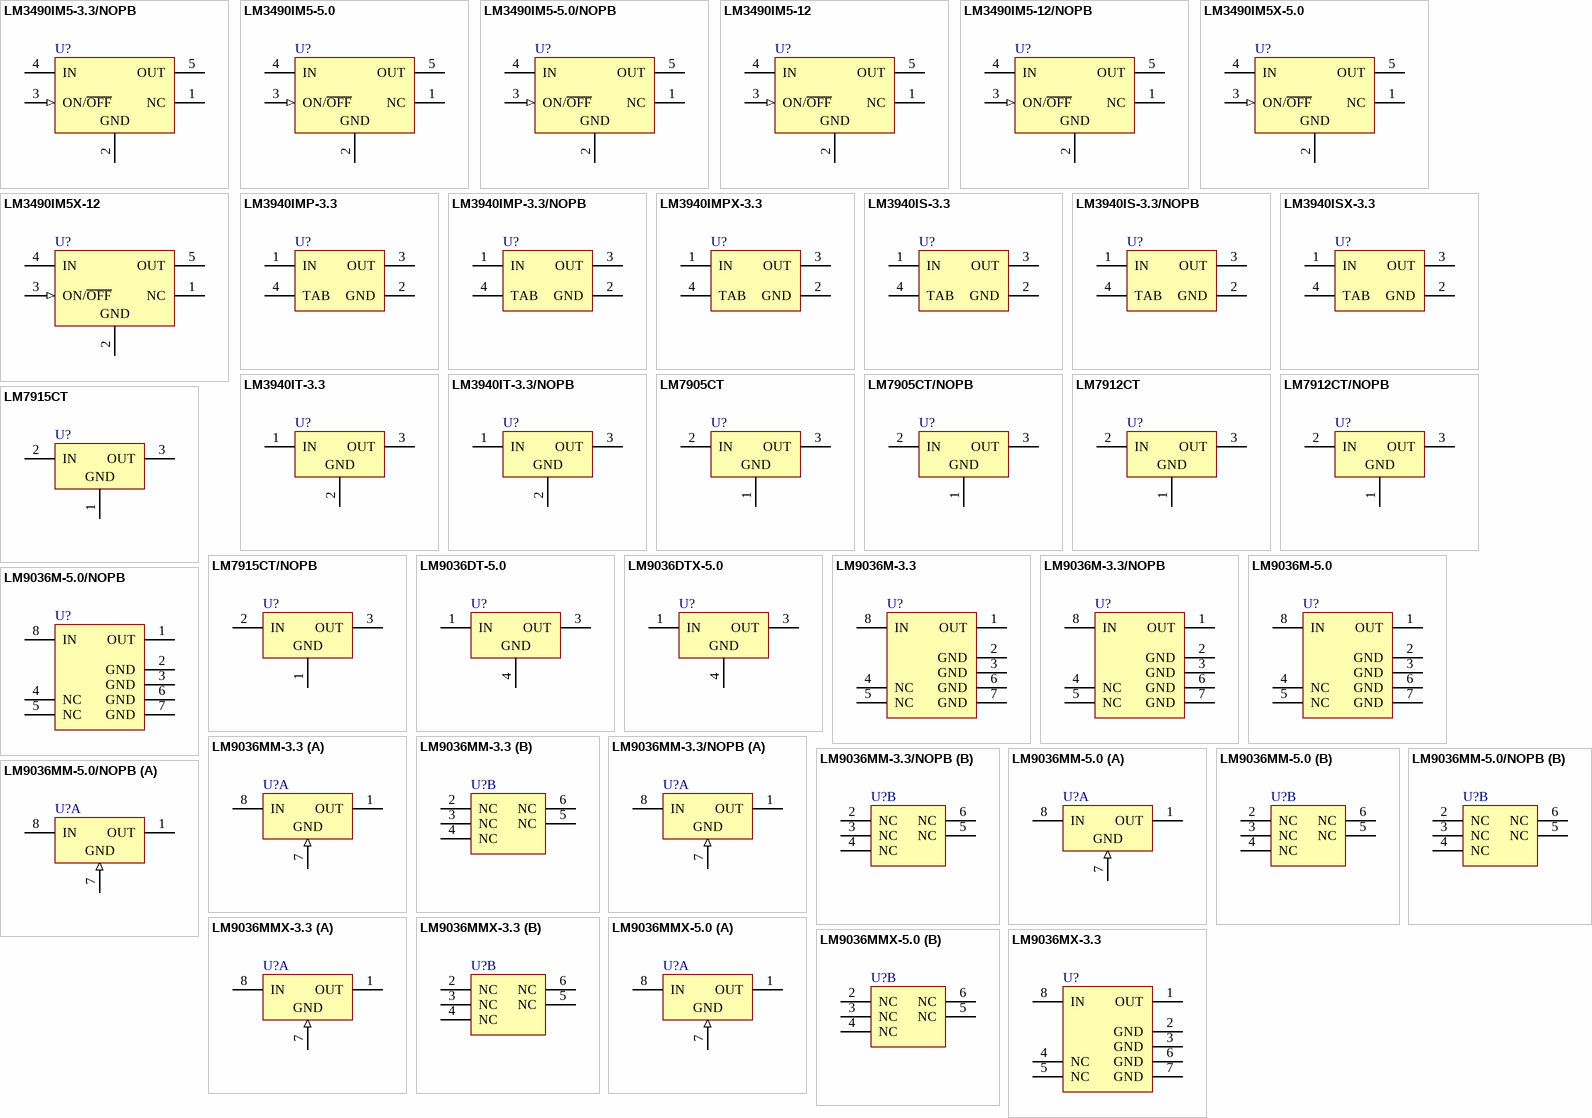
[diagram p15: symbols LM3490IM5-3.3/NOPB to LM9036MX-3.3]

## LM3490IM5-3.3/NOPB
designator U?
100 mA, Quasi Low-Dropout Linear Voltage Regulator with Logic-Controlled ON/OFF, 5-pin SOT-23, Pb-Free; PartNumber: LM3490IM5-3.3/NOPB; Manufacturer: National Semiconductor; PackageTopMarking: L78B*XTT; PowerWise: N; CompType: LDO IC; High-Reliability: Y; DatasheetVersion: Jun-2007; PackageVersion: revD, Aug-2008; PackageReference: MF05A; PackageDescription: Molded SOT-23, .115 x .063 x .040 in Body, 5 Lead, .0375 in Pitch; RoHS: Y; PinCount: 5; ComponentLink1Description: Manufacturer URL; ComponentLink1URL: http://www.national.com/; ComponentLink2Description: LM3490 Datasheet; ComponentLink2URL: http://www.national.com/ds/LM/LM3490.pdf; ComponentLink3Description: LM3490 Web Page; ComponentLink3URL: http://www.national.com/pf/LM/LM3490.html; ComponentLink4Description: MF05A Package Page; ComponentLink4URL: http://www.national.com/packaging/folders/mf05a.html
footprint MF05A_N (SOT23, 5-Leads, Body 2.9x1.6mm, Pitch 0.95mm, Lead Span 2.8mm, IPC Medium Density)
footprint MF05A_L (SOT23, 5-Leads, Body 2.9x1.6mm, Pitch 0.95mm, Lead Span 2.8mm, IPC High Density)
footprint MF05A_M (SOT23, 5-Leads, Body 2.9x1.6mm, Pitch 0.95mm, Lead Span 2.8mm, IPC Low Density)
pins: 1 NC, 2 GND (power), 3 ON/~{OFF} (in), 4 IN (power), 5 OUT (power)

## LM3490IM5-5.0
designator U?
100 mA, Quasi Low-Dropout Linear Voltage Regulator with Logic-Controlled ON/OFF, 5-pin SOT-23; PartNumber: LM3490IM5-5.0; Manufacturer: National Semiconductor; PackageTopMarking: L79B*XTT; PowerWise: N; CompType: LDO IC; High-Reliability: Y; DatasheetVersion: Jun-2007; PackageVersion: revD, Aug-2008; PackageReference: MF05A; PackageDescription: Molded SOT-23, .115 x .063 x .040 in Body, 5 Lead, .0375 in Pitch; RoHS: N; PinCount: 5; ComponentLink1Description: Manufacturer URL; ComponentLink1URL: http://www.national.com/; ComponentLink2Description: LM3490 Datasheet; ComponentLink2URL: http://www.national.com/ds/LM/LM3490.pdf; ComponentLink3Description: LM3490 Web Page; ComponentLink3URL: http://www.national.com/pf/LM/LM3490.html; ComponentLink4Description: MF05A Package Page; ComponentLink4URL: http://www.national.com/packaging/folders/mf05a.html
footprint MF05A_N (SOT23, 5-Leads, Body 2.9x1.6mm, Pitch 0.95mm, Lead Span 2.8mm, IPC Medium Density)
footprint MF05A_L (SOT23, 5-Leads, Body 2.9x1.6mm, Pitch 0.95mm, Lead Span 2.8mm, IPC High Density)
footprint MF05A_M (SOT23, 5-Leads, Body 2.9x1.6mm, Pitch 0.95mm, Lead Span 2.8mm, IPC Low Density)
pins: 1 NC, 2 GND (power), 3 ON/~{OFF} (in), 4 IN (power), 5 OUT (power)

## LM3490IM5-5.0/NOPB
designator U?
100 mA, Quasi Low-Dropout Linear Voltage Regulator with Logic-Controlled ON/OFF, 5-pin SOT-23, Pb-Free; PartNumber: LM3490IM5-5.0/NOPB; Manufacturer: National Semiconductor; PackageTopMarking: L79B*XTT; PowerWise: N; CompType: LDO IC; High-Reliability: Y; DatasheetVersion: Jun-2007; PackageVersion: revD, Aug-2008; PackageReference: MF05A; PackageDescription: Molded SOT-23, .115 x .063 x .040 in Body, 5 Lead, .0375 in Pitch; RoHS: Y; PinCount: 5; ComponentLink1Description: Manufacturer URL; ComponentLink1URL: http://www.national.com/; ComponentLink2Description: LM3490 Datasheet; ComponentLink2URL: http://www.national.com/ds/LM/LM3490.pdf; ComponentLink3Description: LM3490 Web Page; ComponentLink3URL: http://www.national.com/pf/LM/LM3490.html; ComponentLink4Description: MF05A Package Page; ComponentLink4URL: http://www.national.com/packaging/folders/mf05a.html
footprint MF05A_N (SOT23, 5-Leads, Body 2.9x1.6mm, Pitch 0.95mm, Lead Span 2.8mm, IPC Medium Density)
footprint MF05A_L (SOT23, 5-Leads, Body 2.9x1.6mm, Pitch 0.95mm, Lead Span 2.8mm, IPC High Density)
footprint MF05A_M (SOT23, 5-Leads, Body 2.9x1.6mm, Pitch 0.95mm, Lead Span 2.8mm, IPC Low Density)
pins: 1 NC, 2 GND (power), 3 ON/~{OFF} (in), 4 IN (power), 5 OUT (power)

## LM3490IM5-12
designator U?
100 mA, Quasi Low-Dropout Linear Voltage Regulator with Logic-Controlled ON/OFF, 5-pin SOT-23; PartNumber: LM3490IM5-12; Manufacturer: National Semiconductor; PackageTopMarking: L80B*XTT; PowerWise: N; CompType: LDO IC; High-Reliability: Y; DatasheetVersion: Jun-2007; PackageVersion: revD, Aug-2008; PackageReference: MF05A; PackageDescription: Molded SOT-23, .115 x .063 x .040 in Body, 5 Lead, .0375 in Pitch; RoHS: N; PinCount: 5; ComponentLink1Description: Manufacturer URL; ComponentLink1URL: http://www.national.com/; ComponentLink2Description: LM3490 Datasheet; ComponentLink2URL: http://www.national.com/ds/LM/LM3490.pdf; ComponentLink3Description: LM3490 Web Page; ComponentLink3URL: http://www.national.com/pf/LM/LM3490.html; ComponentLink4Description: MF05A Package Page; ComponentLink4URL: http://www.national.com/packaging/folders/mf05a.html
footprint MF05A_N (SOT23, 5-Leads, Body 2.9x1.6mm, Pitch 0.95mm, Lead Span 2.8mm, IPC Medium Density)
footprint MF05A_L (SOT23, 5-Leads, Body 2.9x1.6mm, Pitch 0.95mm, Lead Span 2.8mm, IPC High Density)
footprint MF05A_M (SOT23, 5-Leads, Body 2.9x1.6mm, Pitch 0.95mm, Lead Span 2.8mm, IPC Low Density)
pins: 1 NC, 2 GND (power), 3 ON/~{OFF} (in), 4 IN (power), 5 OUT (power)

## LM3490IM5-12/NOPB
designator U?
100 mA, Quasi Low-Dropout Linear Voltage Regulator with Logic-Controlled ON/OFF, 5-pin SOT-23, Pb-Free; PartNumber: LM3490IM5-12/NOPB; Manufacturer: National Semiconductor; PackageTopMarking: L80B*XTT; PowerWise: N; CompType: LDO IC; High-Reliability: Y; DatasheetVersion: Jun-2007; PackageVersion: revD, Aug-2008; PackageReference: MF05A; PackageDescription: Molded SOT-23, .115 x .063 x .040 in Body, 5 Lead, .0375 in Pitch; RoHS: Y; PinCount: 5; ComponentLink1Description: Manufacturer URL; ComponentLink1URL: http://www.national.com/; ComponentLink2Description: LM3490 Datasheet; ComponentLink2URL: http://www.national.com/ds/LM/LM3490.pdf; ComponentLink3Description: LM3490 Web Page; ComponentLink3URL: http://www.national.com/pf/LM/LM3490.html; ComponentLink4Description: MF05A Package Page; ComponentLink4URL: http://www.national.com/packaging/folders/mf05a.html
footprint MF05A_N (SOT23, 5-Leads, Body 2.9x1.6mm, Pitch 0.95mm, Lead Span 2.8mm, IPC Medium Density)
footprint MF05A_L (SOT23, 5-Leads, Body 2.9x1.6mm, Pitch 0.95mm, Lead Span 2.8mm, IPC High Density)
footprint MF05A_M (SOT23, 5-Leads, Body 2.9x1.6mm, Pitch 0.95mm, Lead Span 2.8mm, IPC Low Density)
pins: 1 NC, 2 GND (power), 3 ON/~{OFF} (in), 4 IN (power), 5 OUT (power)

## LM3490IM5X-5.0
designator U?
100 mA, Quasi Low-Dropout Linear Voltage Regulator with Logic-Controlled ON/OFF, 5-pin SOT-23; PartNumber: LM3490IM5X-5.0; Manufacturer: National Semiconductor; PackageTopMarking: L79B*XTT; PowerWise: N; CompType: LDO IC; High-Reliability: Y; DatasheetVersion: Jun-2007; PackageVersion: revD, Aug-2008; PackageReference: MF05A; PackageDescription: Molded SOT-23, .115 x .063 x .040 in Body, 5 Lead, .0375 in Pitch; RoHS: N; PinCount: 5; ComponentLink1Description: Manufacturer URL; ComponentLink1URL: http://www.national.com/; ComponentLink2Description: LM3490 Datasheet; ComponentLink2URL: http://www.national.com/ds/LM/LM3490.pdf; ComponentLink3Description: LM3490 Web Page; ComponentLink3URL: http://www.national.com/pf/LM/LM3490.html; ComponentLink4Description: MF05A Package Page; ComponentLink4URL: http://www.national.com/packaging/folders/mf05a.html
footprint MF05A_N (SOT23, 5-Leads, Body 2.9x1.6mm, Pitch 0.95mm, Lead Span 2.8mm, IPC Medium Density)
footprint MF05A_L (SOT23, 5-Leads, Body 2.9x1.6mm, Pitch 0.95mm, Lead Span 2.8mm, IPC High Density)
footprint MF05A_M (SOT23, 5-Leads, Body 2.9x1.6mm, Pitch 0.95mm, Lead Span 2.8mm, IPC Low Density)
pins: 1 NC, 2 GND (power), 3 ON/~{OFF} (in), 4 IN (power), 5 OUT (power)

## LM3490IM5X-12
designator U?
100 mA, Quasi Low-Dropout Linear Voltage Regulator with Logic-Controlled ON/OFF, 5-pin SOT-23; PartNumber: LM3490IM5X-12; Manufacturer: National Semiconductor; PackageTopMarking: L80B*XTT; PowerWise: N; CompType: LDO IC; High-Reliability: Y; DatasheetVersion: Jun-2007; PackageVersion: revD, Aug-2008; PackageReference: MF05A; PackageDescription: Molded SOT-23, .115 x .063 x .040 in Body, 5 Lead, .0375 in Pitch; RoHS: N; PinCount: 5; ComponentLink1Description: Manufacturer URL; ComponentLink1URL: http://www.national.com/; ComponentLink2Description: LM3490 Datasheet; ComponentLink2URL: http://www.national.com/ds/LM/LM3490.pdf; ComponentLink3Description: LM3490 Web Page; ComponentLink3URL: http://www.national.com/pf/LM/LM3490.html; ComponentLink4Description: MF05A Package Page; ComponentLink4URL: http://www.national.com/packaging/folders/mf05a.html
footprint MF05A_N (SOT23, 5-Leads, Body 2.9x1.6mm, Pitch 0.95mm, Lead Span 2.8mm, IPC Medium Density)
footprint MF05A_L (SOT23, 5-Leads, Body 2.9x1.6mm, Pitch 0.95mm, Lead Span 2.8mm, IPC High Density)
footprint MF05A_M (SOT23, 5-Leads, Body 2.9x1.6mm, Pitch 0.95mm, Lead Span 2.8mm, IPC Low Density)
pins: 1 NC, 2 GND (power), 3 ON/~{OFF} (in), 4 IN (power), 5 OUT (power)

## LM3940IMP-3.3
designator U?
1A Low Dropout Regulator for 5V to 3.3V Conversion, 4-pin SOT-223; PartNumber: LM3940IMP-3.3; Manufacturer: National Semiconductor; PackageTopMarking: XYTT*L52B; PowerWise: N; CompType: LDO IC; High-Reliability: Y; DatasheetVersion: Jul-2007; PackageVersion: revB, Apr-2003; PackageReference: MP04A; PackageDescription: Molded SOT-223, 6.50 x 3.56 x 1.6mm Body, 4 Lead, 2.3mm Pitch; RoHS: N; PinCount: 4; Code_JEDEC: TO-261-AA; Code_IPC: SOT223-4; ComponentLink1Description: Manufacturer URL; ComponentLink1URL: http://www.national.com/; ComponentLink2Description: LM3940 Datasheet; ComponentLink2URL: http://www.national.com/ds/LM/LM3940.pdf; ComponentLink3Description: LM3940 Web Page; ComponentLink3URL: http://www.national.com/pf/LM/LM3940.html; ComponentLink4Description: MP04A Package Page; ComponentLink4URL: http://www.national.com/packaging/folders/mp04a.html
footprint MP04A_N (SOT223, 4-Leads, Body 6.5x3.5mm, Pitch 2.3mm, Lead Span 7mm, IPC Medium Density)
footprint MP04A_L (SOT223, 4-Leads, Body 6.5x3.5mm, Pitch 2.3mm, Lead Span 7mm, IPC High Density)
footprint MP04A_M (SOT223, 4-Leads, Body 6.5x3.5mm, Pitch 2.3mm, Lead Span 7mm, IPC Low Density)
pins: 1 IN (power), 2 GND (power), 3 OUT (power), 4 TAB (power)

## LM3940IMP-3.3/NOPB
designator U?
1A Low Dropout Regulator for 5V to 3.3V Conversion, 4-pin SOT-223, Pb-Free; PartNumber: LM3940IMP-3.3/NOPB; Manufacturer: National Semiconductor; PackageTopMarking: XYTT*L52B; PowerWise: N; CompType: LDO IC; High-Reliability: Y; DatasheetVersion: Jul-2007; PackageVersion: revB, Apr-2003; PackageReference: MP04A; PackageDescription: Molded SOT-223, 6.50 x 3.56 x 1.6mm Body, 4 Lead, 2.3mm Pitch; RoHS: Y; PinCount: 4; Code_JEDEC: TO-261-AA; Code_IPC: SOT223-4; ComponentLink1Description: Manufacturer URL; ComponentLink1URL: http://www.national.com/; ComponentLink2Description: LM3940 Datasheet; ComponentLink2URL: http://www.national.com/ds/LM/LM3940.pdf; ComponentLink3Description: LM3940 Web Page; ComponentLink3URL: http://www.national.com/pf/LM/LM3940.html; ComponentLink4Description: MP04A Package Page; ComponentLink4URL: http://www.national.com/packaging/folders/mp04a.html
footprint MP04A_N (SOT223, 4-Leads, Body 6.5x3.5mm, Pitch 2.3mm, Lead Span 7mm, IPC Medium Density)
footprint MP04A_L (SOT223, 4-Leads, Body 6.5x3.5mm, Pitch 2.3mm, Lead Span 7mm, IPC High Density)
footprint MP04A_M (SOT223, 4-Leads, Body 6.5x3.5mm, Pitch 2.3mm, Lead Span 7mm, IPC Low Density)
pins: 1 IN (power), 2 GND (power), 3 OUT (power), 4 TAB (power)

## LM3940IMPX-3.3
designator U?
1A Low Dropout Regulator for 5V to 3.3V Conversion, 4-pin SOT-223; PartNumber: LM3940IMPX-3.3; Manufacturer: National Semiconductor; PackageTopMarking: XYTT*L52B; PowerWise: N; CompType: LDO IC; High-Reliability: Y; DatasheetVersion: Jul-2007; PackageVersion: revB, Apr-2003; PackageReference: MP04A; PackageDescription: Molded SOT-223, 6.50 x 3.56 x 1.6mm Body, 4 Lead, 2.3mm Pitch; RoHS: N; PinCount: 4; Code_JEDEC: TO-261-AA; Code_IPC: SOT223-4; ComponentLink1Description: Manufacturer URL; ComponentLink1URL: http://www.national.com/; ComponentLink2Description: LM3940 Datasheet; ComponentLink2URL: http://www.national.com/ds/LM/LM3940.pdf; ComponentLink3Description: LM3940 Web Page; ComponentLink3URL: http://www.national.com/pf/LM/LM3940.html; ComponentLink4Description: MP04A Package Page; ComponentLink4URL: http://www.national.com/packaging/folders/mp04a.html
footprint MP04A_N (SOT223, 4-Leads, Body 6.5x3.5mm, Pitch 2.3mm, Lead Span 7mm, IPC Medium Density)
footprint MP04A_L (SOT223, 4-Leads, Body 6.5x3.5mm, Pitch 2.3mm, Lead Span 7mm, IPC High Density)
footprint MP04A_M (SOT223, 4-Leads, Body 6.5x3.5mm, Pitch 2.3mm, Lead Span 7mm, IPC Low Density)
pins: 1 IN (power), 2 GND (power), 3 OUT (power), 4 TAB (power)

## LM3940IS-3.3
designator U?
1A Low Dropout Regulator for 5V to 3.3V Conversion, 3-pin TO-263; PartNumber: LM3940IS-3.3; Manufacturer: National Semiconductor; PackageTopMarking: NSUZXYTTE#*LM3940IS*-3.3 P+; PowerWise: N; CompType: LDO IC; High-Reliability: Y; DatasheetVersion: Jul-2007; PackageVersion: revF, Apr-2005; PackageReference: TS3B; PackageDescription: TO-263, Molded, .400 x .390 x .180in, 3 Lead, .1in Pitch, Surface Mount; RoHS: N; PinCount: 3; Code_JEDEC: MO-169-AA; ComponentLink1Description: Manufacturer URL; ComponentLink1URL: http://www.national.com/; ComponentLink2Description: LM3940 Datasheet; ComponentLink2URL: http://www.national.com/ds/LM/LM3940.pdf; ComponentLink3Description: LM3940 Web Page; ComponentLink3URL: http://www.national.com/pf/LM/LM3940.html; ComponentLink4Description: TS3B Package Page; ComponentLink4URL: http://www.national.com/packaging/folders/ts3b.html
footprint TS3B_N (D2-PAK, 4-Leads, Body 8.6x10.2mm, Pitch 2.54mm, Lead Span 14.2mm, IPC Medium Density)
footprint TS3B_L (D2-PAK, 4-Leads, Body 8.6x10.2mm, Pitch 2.54mm, Lead Span 14.2mm, IPC High Density)
footprint TS3B_M (D2-PAK, 4-Leads, Body 8.6x10.2mm, Pitch 2.54mm, Lead Span 14.2mm, IPC Low Density)
pins: 1 IN (power), 2 GND (power), 3 OUT (power), 4 TAB (power)

## LM3940IS-3.3/NOPB
designator U?
1A Low Dropout Regulator for 5V to 3.3V Conversion, 3-pin TO-263, Pb-Free; PartNumber: LM3940IS-3.3/NOPB; Manufacturer: National Semiconductor; PackageTopMarking: NSUZXYTTE#*LM3940IS*-3.3 P+; PowerWise: N; CompType: LDO IC; High-Reliability: Y; DatasheetVersion: Jul-2007; PackageVersion: revF, Apr-2005; PackageReference: TS3B; PackageDescription: TO-263, Molded, .400 x .390 x .180in, 3 Lead, .1in Pitch, Surface Mount; RoHS: Y; PinCount: 3; Code_JEDEC: MO-169-AA; ComponentLink1Description: Manufacturer URL; ComponentLink1URL: http://www.national.com/; ComponentLink2Description: LM3940 Datasheet; ComponentLink2URL: http://www.national.com/ds/LM/LM3940.pdf; ComponentLink3Description: LM3940 Web Page; ComponentLink3URL: http://www.national.com/pf/LM/LM3940.html; ComponentLink4Description: TS3B Package Page; ComponentLink4URL: http://www.national.com/packaging/folders/ts3b.html
footprint TS3B_N (D2-PAK, 4-Leads, Body 8.6x10.2mm, Pitch 2.54mm, Lead Span 14.2mm, IPC Medium Density)
footprint TS3B_L (D2-PAK, 4-Leads, Body 8.6x10.2mm, Pitch 2.54mm, Lead Span 14.2mm, IPC High Density)
footprint TS3B_M (D2-PAK, 4-Leads, Body 8.6x10.2mm, Pitch 2.54mm, Lead Span 14.2mm, IPC Low Density)
pins: 1 IN (power), 2 GND (power), 3 OUT (power), 4 TAB (power)